# Altium footprint library 58.13.0093_400_Rev00.PcbLib: 46 footprints (part 2 of 3)
Each footprint in its own frame and in the unit in brackets; x right, y up, seen from the top. Pads: shape width x height; smd on the part's side, far side on the other; paste and mask are expansions set on the pad; w line width, h text height; cw(c..) or ccw(c..) is an arc to the next point about the centre after c.
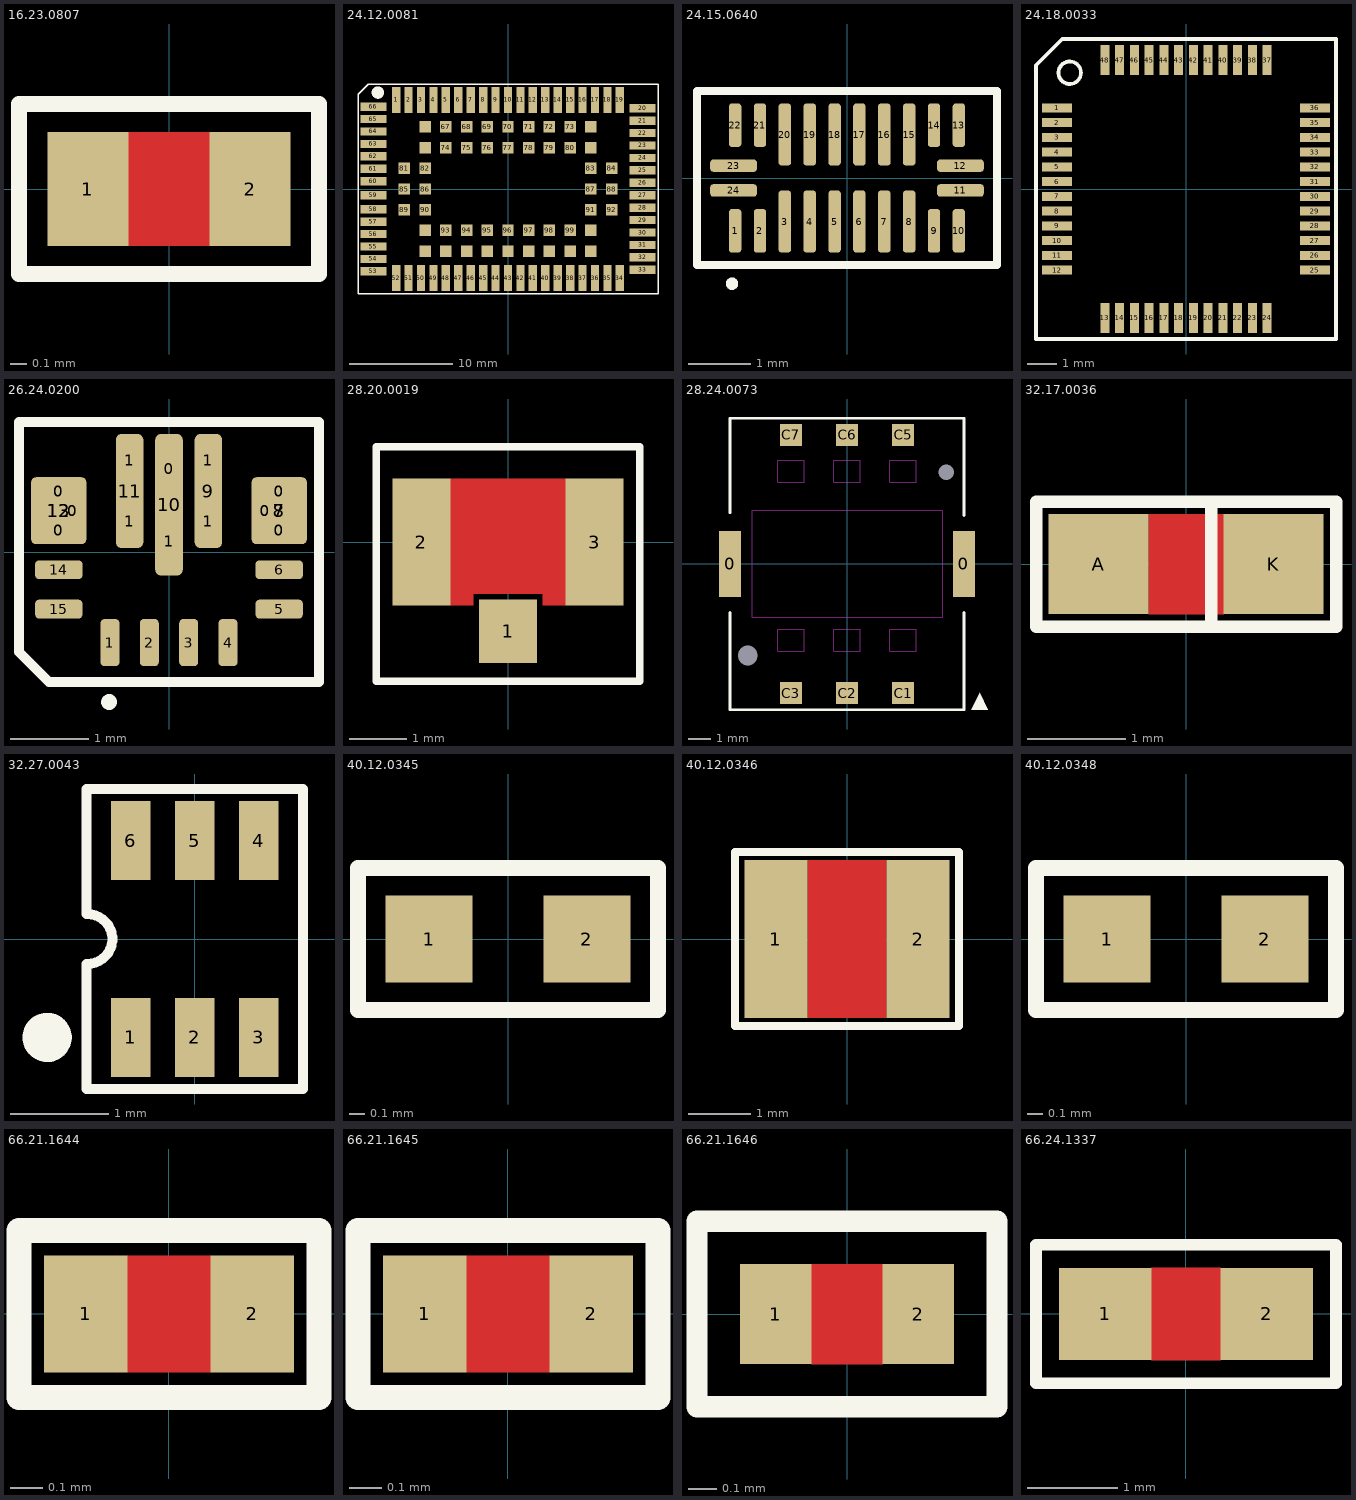
[diagram p1: the footprints below, top view; thin cyan lines are the x and y axes]

## 16.23.0807 [mil]
pads (2):
  rect 20x28 smd: 1(-20,0) 2(20,0)
Top Layer:
  pour cut-out: -10,14 -10,-14 10,-14 10,14
Top Overlay:
  lines w4: -37,-21 37,-21 37,21 -37,21 -37,-21
3D body "0402 SMD Capacitor.step": height 7.95, standoff 0, extent -19.68,-11.8 19.7,11.82

## 24.12.0081 [mm]
pads (114):
  rect 0.8x2.5 smd: 1(-10.8,8.6) 2(-9.6,8.6) 3(-8.4,8.6) 4(-7.2,8.6) 5(-6,8.6) 6(-4.8,8.6) 7(-3.6,8.6) 8(-2.4,8.6) 9(-1.2,8.6) 10(0,8.6) 11(1.2,8.6) 12(2.4,8.6) 13(3.6,8.6) 14(4.8,8.6) 15(6,8.6) 16(7.2,8.6) 17(8.4,8.6) 18(9.6,8.6) 19(10.8,8.6) 34(10.8,-8.6) 35(9.6,-8.6) 36(8.4,-8.6) 37(7.2,-8.6) 38(6,-8.6) 39(4.8,-8.6) 40(3.6,-8.6) 41(2.4,-8.6) 42(1.2,-8.6) 43(0,-8.6) 44(-1.2,-8.6) 45(-2.4,-8.6) 46(-3.6,-8.6) 47(-4.8,-8.6) 48(-6,-8.6) 49(-7.2,-8.6) 50(-8.4,-8.6) 51(-9.6,-8.6) 52(-10.8,-8.6)
  rect 2.5x0.8 smd: 20(13,7.8) 21(13,6.6) 22(13,5.4) 23(13,4.2) 24(13,3) 25(13,1.8) 26(13,0.6) 27(13,-0.6) 28(13,-1.8) 29(13,-3) 30(13,-4.2) 31(13,-5.4) 32(13,-6.6) 33(13,-7.8) 53(-13,-7.95) 54(-13,-6.75) 55(-13,-5.55) 56(-13,-4.35) 57(-13,-3.15) 58(-13,-1.95) 59(-13,-0.6) 60(-13,0.75) 61(-13,1.95) 62(-13,3.15) 63(-13,4.35) 64(-13,5.55) 65(-13,6.75) 66(-13,7.95)
  rect 1.1x1.1 smd: 67(-6,6) 68(-4,6) 69(-2,6) 70(0,6) 71(2,6) 72(4,6) 73(6,6) 74(-6,4) 75(-4,4) 76(-2,4) 77(0,4) 78(2,4) 79(4,4) 80(6,4) 81(-10,2) 82(-8,2) 83(8,2) 84(10,2) 85(-10,0) 86(-8,0) 87(8,0) 88(10,0) 89(-10,-2) 90(-8,-2) 91(8,-2) 92(10,-2) 93(-6,-4) 94(-4,-4) 95(-2,-4) 96(0,-4) 97(2,-4) 98(4,-4) 99(6,-4) 100(-6,-6) 101(-4,-6) 102(-2,-6) 103(0,-6) 104(2,-6) 105(4,-6) 106(6,-6) 245(-8,6) 246(8,6) 247(8,4) 248(8,-4) 249(8,-6) 250(-8,-6) 251(-8,-4) 252(-8,4)
Top Overlay:
  circle w0.6: c-12.556,9.309 r0.3
  lines w0.127: -14.478,-10.109 -14.478,9.144 -13.513,10.109 14.478,10.109 14.478,-10.109 -14.478,-10.109
3D body: height 2.3, standoff 0.8, extent -13.3,-8.9 13.3,8.9
3D body: height 0.9, standoff 0, extent -13.81,-9.398 13.8,9.398

## 24.15.0640 [mm]
pads (48):
  rrect50% 0.2x0.7 smd paste-0.18: 1(-1.8,-0.85) 2(-1.4,-0.85) 9(1.4,-0.85) 10(1.8,-0.85) 13(1.8,0.85) 14(1.4,0.85) 21(-1.4,0.85) 22(-1.8,0.85)
  rrect50% 0.2x1 smd paste-0.18: 3(-1,-0.7) 4(-0.6,-0.7) 5(-0.2,-0.7) 6(0.2,-0.7) 7(0.6,-0.7) 8(1,-0.7) 15(1,0.7) 16(0.6,0.7) 17(0.2,0.7) 18(-0.2,0.7) 19(-0.6,0.7) 20(-1,0.7)
  rrect50% 0.75x0.2 smd paste-0.18: 11(1.825,-0.2) 12(1.825,0.2) 23(-1.825,0.2) 24(-1.825,-0.2)
  rrect50% 0.7x0.2 on Top Paste: ""(-1.85,-0.2) ""(-1.85,0.2) ""(1.85,-0.2) ""(1.85,0.2)
  rrect50% 0.2x0.65 on Top Paste: ""(-1.8,-0.875) ""(-1.8,0.875) ""(-1.4,-0.875) ""(-1.4,0.875) ""(1.4,-0.875) ""(1.4,0.875) ""(1.8,-0.875) ""(1.8,0.875)
  rrect50% 0.2x0.95 on Top Paste: ""(-1,-0.725) ""(-1,0.725) ""(-0.6,-0.725) ""(-0.6,0.725) ""(-0.2,-0.725) ""(-0.2,0.725) ""(0.2,-0.725) ""(0.2,0.725) ""(0.6,-0.725) ""(0.6,0.725) ""(1,-0.725) ""(1,0.725)
Top Overlay:
  circle w0.1: c-1.85,-1.7 r0.05
  lines w0.127: -2.413,-1.397 2.413,-1.397 2.413,1.397 -2.413,1.397 -2.413,-1.397
3D body: height 0.55, standoff 0, extent -2,-1 2,1

## 24.18.0033 [mil]
pads (48):
  rect 40x12 smd: 1(-172,108.27) 2(-172,88.58) 3(-172,68.9) 4(-172,49.21) 5(-172,29.53) 6(-172,9.84) 7(-172,-9.84) 8(-172,-29.53) 9(-172,-49.21) 10(-172,-68.9) 11(-172,-88.58) 12(-172,-108.27) 25(172,-108.27) 26(172,-88.58) 27(172,-68.9) 28(172,-49.21) 29(172,-29.53) 30(172,-9.84) 31(172,9.84) 32(172,29.53) 33(172,49.21) 34(172,68.9) 35(172,88.58) 36(172,108.27)
  rect 12x40 smd: 13(-108.27,-172) 14(-88.58,-172) 15(-68.9,-172) 16(-49.21,-172) 17(-29.53,-172) 18(-9.84,-172) 19(9.84,-172) 20(29.53,-172) 21(49.21,-172) 22(68.9,-172) 23(88.58,-172) 24(108.27,-172) 37(108.27,172) 38(88.58,172) 39(68.9,172) 40(49.21,172) 41(29.53,172) 42(9.84,172) 43(-9.84,172) 44(-29.53,172) 45(-49.21,172) 46(-68.9,172) 47(-88.58,172) 48(-108.27,172)
Top Overlay:
  circle w5: c-155,155 r15
  lines w5: -200,-200 200,-200 200,200 -165,200 -200,165 -200,-200
3D body "LQFP48-0_5.step": height 61.5, standoff -0.39, extent -172.67,-172.68 172.69,172.69

## 26.24.0200 [mm]
pads (33):
  rrect50% 0.6x0.25 on Top Paste: 0(-1.4,0.275) 0(-1.4,0.775) 0(1.4,0.275) 0(1.4,0.775)
  rrect50% 0.6x0.25 on Top Solder: 0(-1.4,0.275) 0(-1.4,0.775) 0(1.4,0.275) 0(1.4,0.775)
  rrect50% 0.25x0.75 on Top Paste: 0(-1.225,0.525) 0(1.225,0.525)
  rrect50% 0.25x0.75 on Top Solder: 0(-1.225,0.525) 0(1.225,0.525)
  rrect50% 0.25x0.72 on Top Paste: 0(0,1.06) 1(0,0.14)
  rrect42% 0.24x0.6 smd: 1(-0.75,-1.15) 2(-0.25,-1.15) 3(0.25,-1.15) 4(0.75,-1.15)
  rrect50% 0.25x0.575 on Top Paste: 1(-0.5,0.388) 1(-0.5,1.163) 1(0.5,0.388) 1(0.5,1.163)
  rrect42% 0.6x0.24 smd: 5(1.4,-0.725) 6(1.4,-0.225) 14(-1.4,-0.225) 15(-1.4,-0.725)
  rrect17% 0.7x0.85 smd paste-0.35 mask-0.35: 7(1.4,0.525) 8(1.4,0.525) 12(-1.4,0.525) 13(-1.4,0.525)
  rrect42% 0.35x1.45 smd paste-0.18 mask-0.05: 9(0.5,0.775) 11(-0.5,0.775)
  rrect42% 0.35x1.8 smd paste-0.18 mask-0.05: 10(0,0.6)
Top Overlay:
  circle w0.1: c-0.762,-1.905 r0.05
  lines w0.127: -1.905,-1.27 -1.905,1.651 1.905,1.651 1.905,-1.651 -1.524,-1.651 -1.905,-1.27
3D body "RNM0015A.stp": height 1, standoff 0, extent -1.5,-1.25 1.5,1.25

## 28.20.0019 [mm]
pads (3):
  rect 1x1.1 smd: 1(0,-1.55)
  rect 1x2.2 smd: 2(-1.5,0) 3(1.5,0)
Top Layer:
  pour cut-out: -1,1.1 1,1.1 1,-1.1 0.6,-1.1 0.6,-0.9 -0.6,-0.9 -0.6,-1.1 -1,-1.1
Top Overlay:
  lines w0.127: -2.286,-2.413 -2.286,1.651 2.286,1.651 2.286,-2.413 -2.286,-2.413
3D body: height 1.2, standoff 0.1, extent -1,-1 0.021,0.999
3D body: height 1.2, standoff 0.1, extent -0.021,-0.999 1,1
3D body: height 1.3, standoff 0.1, extent -0.25,-0.25 0.25,0.25
3D body: height 0.4, standoff 0, extent -1.3,-1.3 1.3,1.3

## 28.24.0073 [mm]
pads (10):
  rect 1x3 smd: 0(-5.3,0) 0(5.3,0)
  rect 1x1 smd: C1(2.54,-5.85) C2(0,-5.85) C3(-2.54,-5.85) C5(2.54,5.85) C6(0,5.85) C7(-2.54,5.85)
  round 0 hole 0.7 unplated: FIX1(4.5,4.15)
  round 0 hole 0.9 unplated: FIX2(-4.5,-4.15)
Top Layer keep-out:
  lines w0.01: -4.293,-2.425 -3.575,-2.425 3.575,-2.425 4.343,-2.425 4.343,2.425 3.575,2.425 -3.575,2.425 -4.293,2.425 -4.293,-2.425 ; -3.14,-3.95 -3.14,-2.95 -1.94,-2.95 -1.94,-3.95 -3.14,-3.95 ; -3.14,3.7 -1.94,3.7 -1.94,4.7 -3.14,4.7 -3.14,3.7 ; -0.6,-3.95 -0.6,-2.95 0.6,-2.95 0.6,-3.95 -0.6,-3.95 ; -0.6,3.7 0.6,3.7 0.6,4.7 -0.6,4.7 -0.6,3.7 ; 1.94,-3.95 1.94,-2.95 3.14,-2.95 3.14,-3.95 1.94,-3.95 ; 1.94,3.7 3.14,3.7 3.14,4.7 1.94,4.7 1.94,3.7
Top Overlay:
  region: 6.008,-5.844 5.627,-6.606 6.389,-6.606
  lines w0.127: -5.3,-2.193 -5.3,-6.604 5.3,-6.604 5.3,-2.193 ; -5.3,2.32 -5.3,6.604 5.3,6.604 5.3,2.193
3D body: height 1.25, standoff 0, extent -4.76,-6.11 4.76,6.1

## 32.17.0036 [mil]
pads (2):
  rect 40x40 smd: A(-35,0) K(35,0)
Top Layer:
  pour cut-out: -15,20 -15,-20 15,-20 15,20
Top Overlay:
  lines w5: 10,-25 10,25 ; -60,-25 60,-25 60,25 -60,25 -60,-25
3D body "led-0603-verde.STEP": height 35.43, standoff 0, extent -33.47,-17.71 33.46,17.72

## 32.27.0043 [mm]
pads (6):
  rect 0.4x0.8 smd: 1(-0.65,-1) 2(0,-1) 3(0.65,-1) 4(0.65,1) 5(0,1) 6(-0.65,1)
Top Overlay:
  circle w0.25: c-1.5,-1 r0.125
  lines w0.1: -1.1,0.254 -1.1,1.524
  lines w0.102: -1.1,-0.254 -1.1,-1.524 1.1,-1.524 1.1,1.524 -1.1,1.524 ; -1.092,-0.254 ccw(c-1.092,0) -1.092,0.254
3D body "User Library-SC88-6.step": height 1.1, standoff 0, extent -1,-1.1 1,1.1

## 40.12.0345 [mil]
pads (2):
  rect 22x22 smd: 1(-20,0) 2(20,0)
Top Overlay:
  lines w4: -38,-18 -38,18 38,18 38,-18 -38,-18
3D body "User Library-Chip Inductor.step": height 19.68, standoff 0, extent -20,-11.62 19.37,12

## 40.12.0346 [mil]
pads (2):
  rect 40x100 smd: 1(-45,0) 2(45,0)
Top Layer:
  pour cut-out: -25,50 -25,-50 25,-50 25,50
Top Overlay:
  lines w5: -70.87,-55.12 -70.87,55.12 70.87,55.12 70.87,-55.12 -70.87,-55.12
3D body "IND-1008HT.step": height 44.53, standoff -0.39, extent -52.95,-45.86 52.95,45.87

## 40.12.0348 [mil]
pads (2):
  rect 22x22 smd: 1(-20,0) 2(20,0)
Top Overlay:
  lines w4: -38,-18 38,-18 38,18 -38,18 -38,-18
3D body "User Library-Chip Inductor.step": height 19.68, standoff 0, extent -20,-11.62 19.37,12

## 66.21.1644 [mil]
pads (2):
  rect 10x14 smd: 1(-10,0) 2(10,0)
Top Layer:
  pour cut-out: -5,7 -5,-7 5,-7 5,7
Top Overlay:
  lines w3: -18,-10 -18,10 18,10 18,-10 -18,-10
3D body "0201 Res.step": height 12.1, standoff 0, extent -11.99,-6 12.01,6

## 66.21.1645 [mil]
pads (2):
  rect 10x14 smd: 1(-10,0) 2(10,0)
Top Layer:
  pour cut-out: -5,7 -5,-7 5,-7 5,7
Top Overlay:
  lines w3: -18,-10 -18,10 18,10 18,-10 -18,-10
3D body "0201 Res.step": height 12.1, standoff 0, extent -11.99,-6 12.01,6

## 66.21.1646 [mil]
pads (2):
  rect 10x14 smd: 1(-10,0) 2(10,0)
Top Layer:
  pour cut-out: -5,7 5,7 5,-7 -5,-7
Top Overlay:
  lines w3: -21,-13 -21,13 21,13 21,-13 -21,-13
3D body "0201 Res.step": height 12.1, standoff 0, extent -11.99,-6 12.01,6

## 66.24.1337 [mil]
pads (2):
  rect 40x40 smd: 1(-35,0) 2(35,0)
Top Layer:
  pour cut-out: -15,20 15,20 15,-20 -15,-20
Top Overlay:
  lines w5: -65,-30 -65,30 65,30 65,-30 -65,-30
3D body "0603 SMD RES.step": height 11.89, standoff 0, extent -31.49,-15.74 31.5,15.75